# EAGLE library part DRV8833 (library DRV8833)
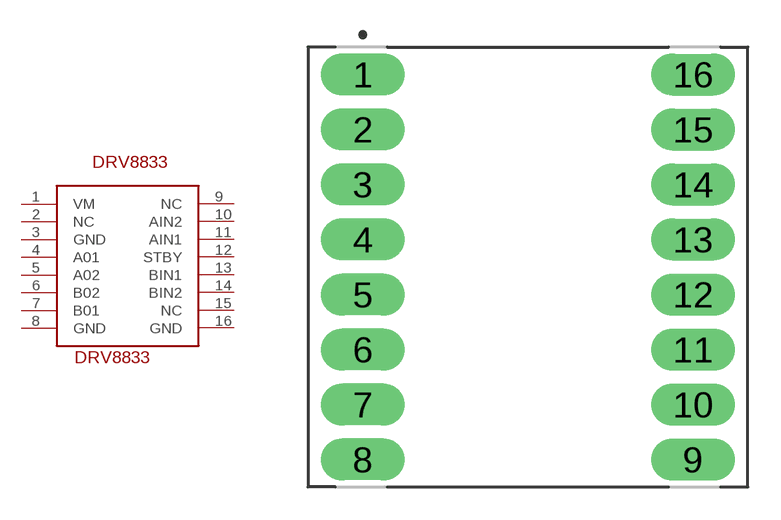
[diagram p0: symbol with the pads of DRV8833; footprint DRV8833]

Designator prefix -

## DRV8833  [DRV8833]
1  VM
2  NC
3  GND
4  A01
5  A02
6  B02
7  B01
8  GND
9  NC
10  AIN2
11  AIN1
12  STBY
13  BIN1
14  BIN2
15  NC
16  GND

## Footprint DRV8833 (pad centres in mm)
drill 0.9 pad 1.93 long: 1 -11.43,12.7; 2 -11.43,10.16; 3 -11.43,7.62; 4 -11.43,5.08; 5 -11.43,2.54; 6 -11.43,0; 7 -11.43,-2.54; 8 -11.43,-5.08; 9 3.81,-5.08; 10 3.81,-2.54; 11 3.81,0; 12 3.81,2.54; 13 3.81,5.08; 14 3.81,7.62; 15 3.81,10.16; 16 3.81,12.7